# EAGLE library part 749020020A (library WE-LAN)
WE-LAN LAN Transformer Characteristics Suitable for industrial temperatures from –40 °C up to +125 °C Different version available from 1.5 kV isolation to 6 kV. HPLE version Additional CMC for higher attenuation Non PoE, PoE and PoE++ up to 2 A PoE up to 150 W and speeds up to 1 Gbit/s Available in SMT Compliant with standards: IEEE 802.3u, IEEE 802.3ab, IEEE 802.3af, IEEE 802.3at and IEEE 802.3bt UL Recognized Applications Compatible to Industrial Ethernet systems like EtherCAT or Profinet Compliant with most IC’s for Ethernet applications such as Microchip, Texas Instruments, Broadcom, Linear Technology Router, switches, sensors, robotics, automation, IP cameras, IoT applications Details see: www.we-online.com/en/components/products/WE-LAN Created by Ella 2026-07-23 2026 (C) Würth Elektronik
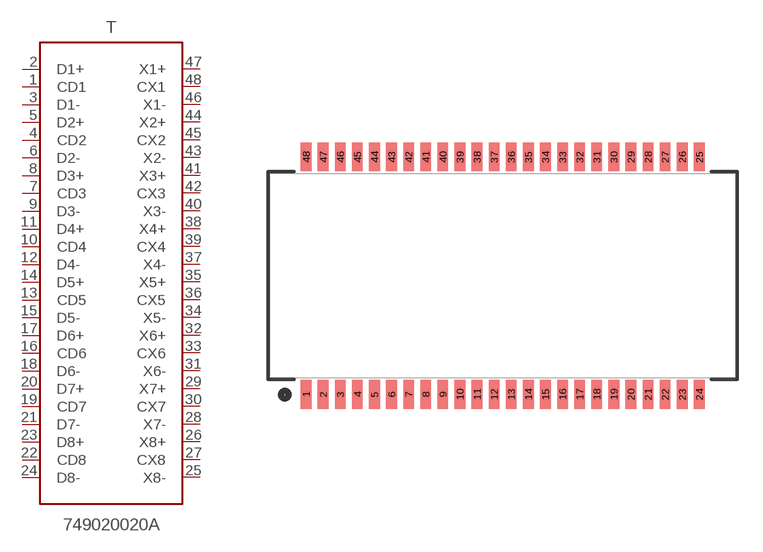
[diagram p39: symbol with the pads of 749020020A; footprint 749020020A]

Designator prefix T

## 749020020A (DATA-RATE: 10/100/1000BASE-T; DATASHEET: https://www.we-online.com/redexpert/spec/749020020A?ae; HPLE: No; IMPROVED-CMRR: No; L: 350 uH; MOUNT: SMT; OPERATING-TEMPERATURE: -40 °C up to +85 °C; PART-NUMBER: 749020020A; POE: non-PoE; PORTS: 2; VALUE: 749020020A; VT: 1500 V (RMS))  [749020020A]
1  CD1  pas
2  D1+  pas
3  D1-  pas
4  CD2  pas
5  D2+  pas
6  D2-  pas
7  CD3  pas
8  D3+  pas
9  D3-  pas
10  CD4  pas
11  D4+  pas
12  D4-  pas
13  CD5  pas
14  D5+  pas
15  D5-  pas
16  CD6  pas
17  D6+  pas
18  D6-  pas
19  CD7  pas
20  D7+  pas
21  D7-  pas
22  CD8  pas
23  D8+  pas
24  D8-  pas
25  X8-  pas
26  X8+  pas
27  CX8  pas
28  X7-  pas
29  X7+  pas
30  CX7  pas
31  X6-  pas
32  X6+  pas
33  CX6  pas
34  X5-  pas
35  X5+  pas
36  CX5  pas
37  X4-  pas
38  X4+  pas
39  CX4  pas
40  X3-  pas
41  X3+  pas
42  CX3  pas
43  X2-  pas
44  X2+  pas
45  CX2  pas
46  X1-  pas
47  X1+  pas
48  CX1  pas

## Footprint 749020020A (pad centres in mm)
WE-LAN LAN Transformer 10/100/1000BASE-T, 2Port, SMT
smd 0.64 x 1.715: 1 -11.73,-7.082; 2 -10.71,-7.082; 3 -9.69,-7.082; 4 -8.67,-7.082; 5 -7.65,-7.082; 6 -6.63,-7.082; 7 -5.61,-7.082; 8 -4.59,-7.082; 9 -3.57,-7.082; 10 -2.55,-7.082; 11 -1.53,-7.082; 12 -0.51,-7.082; 13 0.51,-7.082; 14 1.53,-7.082; 15 2.55,-7.082; 16 3.57,-7.082; 17 4.59,-7.082; 18 5.61,-7.082; 19 6.63,-7.082; 20 7.65,-7.082; 21 8.67,-7.082; 22 9.69,-7.082; 23 10.71,-7.082; 24 11.73,-7.082; 25 11.73,7.082; 26 10.71,7.082; 27 9.69,7.082; 28 8.67,7.082; 29 7.65,7.082; 30 6.63,7.082; 31 5.61,7.082; 32 4.59,7.082; 33 3.57,7.082; 34 2.55,7.082; 35 1.53,7.082; 36 0.51,7.082; 37 -0.51,7.082; 38 -1.53,7.082; 39 -2.55,7.082; 40 -3.57,7.082; 41 -4.59,7.082; 42 -5.61,7.082; 43 -6.63,7.082; 44 -7.65,7.082; 45 -8.67,7.082; 46 -9.69,7.082; 47 -10.71,7.082; 48 -11.73,7.082